# EAGLE library part ARDUINO (library ARDUINO)
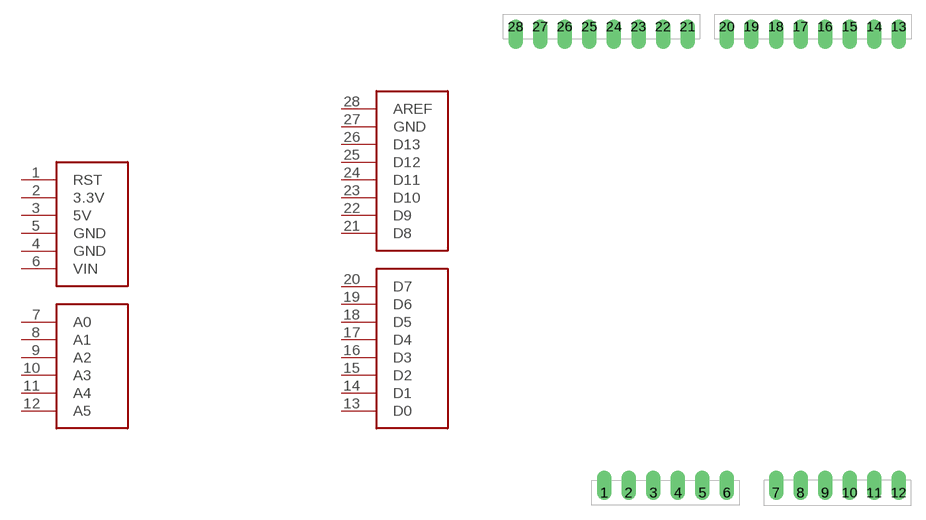
[diagram p0: symbol with the pads of ARDUINO; footprint ARDUINO]

Designator prefix -

## ARDUINO  [ARDUINO]
1  RST
2  3.3V  pwr
3  5V  pwr
4  GND  pwr
5  GND  pwr
6  VIN
7  A0
8  A1
9  A2
10  A3
11  A4
12  A5
13  D0
14  D1
15  D2
16  D3
17  D4
18  D5
19  D6
20  D7
21  D8
22  D9
23  D10
24  D11
25  D12
26  D13
27  GND  pwr
28  AREF

## Footprint ARDUINO (pad centres in mm)
drill 1.016 offset: 1 -10.668,-24.13; 2 -8.128,-24.13; 3 -5.588,-24.13; 4 -3.048,-24.13; 5 -0.508,-24.13; 6 2.032,-24.13; 7 7.112,-24.13; 8 9.652,-24.13; 9 12.192,-24.13; 10 14.732,-24.13; 11 17.272,-24.13; 12 19.812,-24.13; 13 19.812,24.13; 14 17.272,24.13; 15 14.732,24.13; 16 12.192,24.13; 17 9.652,24.13; 18 7.112,24.13; 19 4.572,24.13; 20 2.032,24.13; 21 -2.032,24.13; 22 -4.572,24.13; 23 -7.112,24.13; 24 -9.652,24.13; 25 -12.192,24.13; 26 -14.732,24.13; 27 -17.272,24.13; 28 -19.812,24.13